# EAGLE library part DAC5578SPW (library openag-dacs)
Texas Instruments - DAC5578SPW Description: 8 Bit Digital to Analog Converter 8 16-TSSOP Technical Specifications: Number of Bits: 8-bit Number of D/A Converters: 8 Settling Time: 12us Operating Voltage: 2.7V - 5.5V Operating Temperature: -40° C to 125°C Datasheet(s): DAC5578,6578,7578 <http://www.ti.com/lit/ds/symlink/dac5578.pdf> Vendor(s): Digikey: 296-27736-5-ND <https://www.digikey.com/product-detail/en/texas-instruments/DAC5578SPW/296-27736-5-ND/2360827>
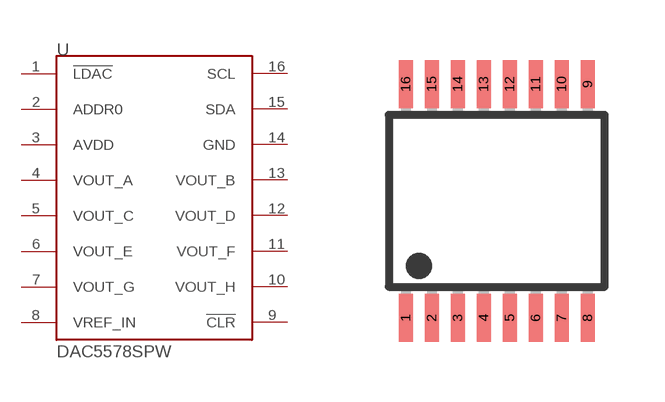
[diagram p0: symbol with the pads of TSSOP16; footprint TSSOP16]

Designator prefix U

## DAC5578SPW (MPN: DAC5578SPW; POPULATE: YES; VALUE: DAC5578SPW; VERIFIED: NO)  [TSSOP16]
1  !LDAC!
2  ADDR0
3  AVDD
4  VOUT_A
5  VOUT_C
6  VOUT_E
7  VOUT_G
8  VREF_IN
9  !CLR!
10  VOUT_H
11  VOUT_F
12  VOUT_D
13  VOUT_B
14  GND
15  SDA
16  SCL

## Footprint TSSOP16 (pad centres in mm)
PW (R-PDSO-G8) Source: http://focus.ti.com/lit/ds/symlink/ads1271.pdf
smd 0.35 x 1.2: 1 -2.275,-2.925; 2 -1.625,-2.925; 3 -0.975,-2.925; 4 -0.325,-2.925; 5 0.325,-2.925; 6 0.975,-2.925; 7 1.625,-2.925; 8 2.275,-2.925; 9 2.275,2.925; 10 1.625,2.925; 11 0.975,2.925; 12 0.325,2.925; 13 -0.325,2.925; 14 -0.975,2.925; 15 -1.625,2.925; 16 -2.275,2.925